# Altium schematic symbol library SCH - MEMORY - ISSI 1MB 512Kx16 TSOP-44.SCHLIB: 1 symbol
Pins are listed as number, name and electrical type; pins without a type are passive.

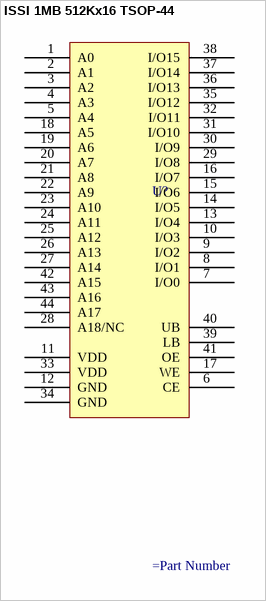
[diagram p0: symbol ISSI 1MB 512Kx16 TSOP-44]

## ISSI 1MB 512Kx16 TSOP-44
designator U?
pins: 1 A0, 2 A1, 3 A2, 4 A3, 5 A4, 6 CE, 7 I/O0, 8 I/O1, 9 I/O2, 10 I/O3, 11 VDD, 12 GND, 13 I/O4, 14 I/O5, 15 I/O6, 16 I/O7, 17 WE, 18 A5, 19 A6, 20 A7, 21 A8, 22 A9, 23 A10, 24 A11, 25 A12, 26 A13, 27 A14, 28 A18/NC, 29 I/O8, 30 I/O9, 31 I/O10, 32 I/O11, 33 VDD, 34 GND, 35 I/O12, 36 I/O13, 37 I/O14, 38 I/O15, 39 LB, 40 UB, 41 OE, 42 A15, 43 A16, 44 A17